# Altium footprint library PCB - POWER INDUCTORS - WURTH WE-LQS 6045.PCBLIB: 1 footprints
Each footprint in its own frame and in the unit in brackets; x right, y up, seen from the top. Pads: shape width x height; smd on the part's side, far side on the other; paste and mask are expansions set on the pad; w line width, h text height; cw(c..) or ccw(c..) is an arc to the next point about the centre after c.
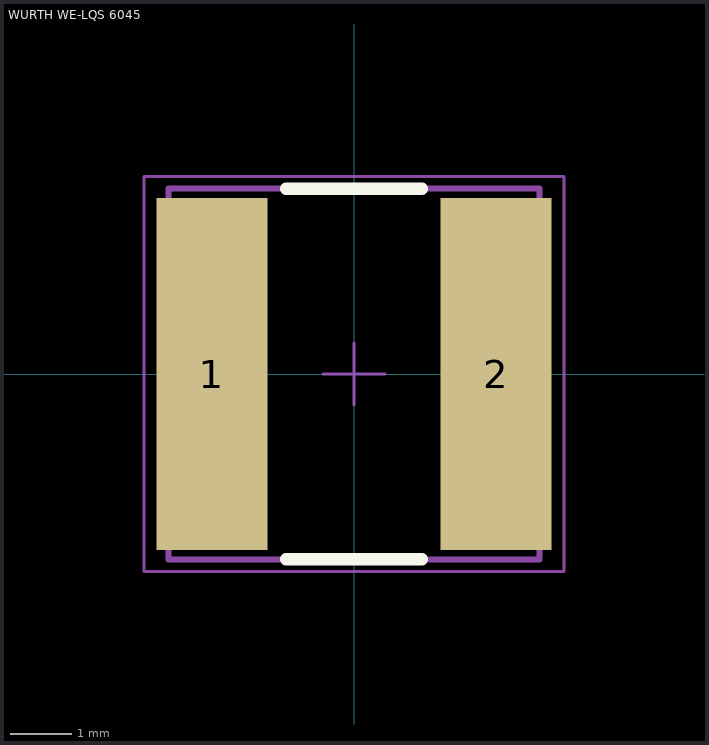
[diagram p0: the footprint, top view; thin cyan lines are the x and y axes]

## WURTH WE-LQS 6045 [mm] "SMD Power Inductor, 2-Leads, body 6x6mm"
height 4.5
pads (2):
  rect 1.8x5.7 smd: 1(-2.3,0) 2(2.3,0)
Top Overlay:
  lines w0.2: -1.1,-3 1.1,-3 ; -1.1,3 1.1,3
Mechanical 13:
  lines w0.1: -3,-3 -3,3 3,3 3,-3 -3,-3
Mechanical 15:
  lines w0.05: -0.5,0 0.5,0 ; 0,-0.5 0,0.5 ; -3.4,-3.2 -3.4,3.2 3.4,3.2 3.4,-3.2 -3.4,-3.2
3D body "WURTH - WE-LQS H4.5mm.step": height 4.5, standoff 0, extent -3,-3 3,3